# Altium footprint library Atmel Microcontroller 8-Bit megaAVR.PcbLib: 68 footprints (part 5 of 5)
Each footprint in its own frame and in the unit in brackets; x right, y up, seen from the top. Pads: shape width x height; smd on the part's side, far side on the other; paste and mask are expansions set on the pad; w line width, h text height; cw(c..) or ccw(c..) is an arc to the next point about the centre after c.
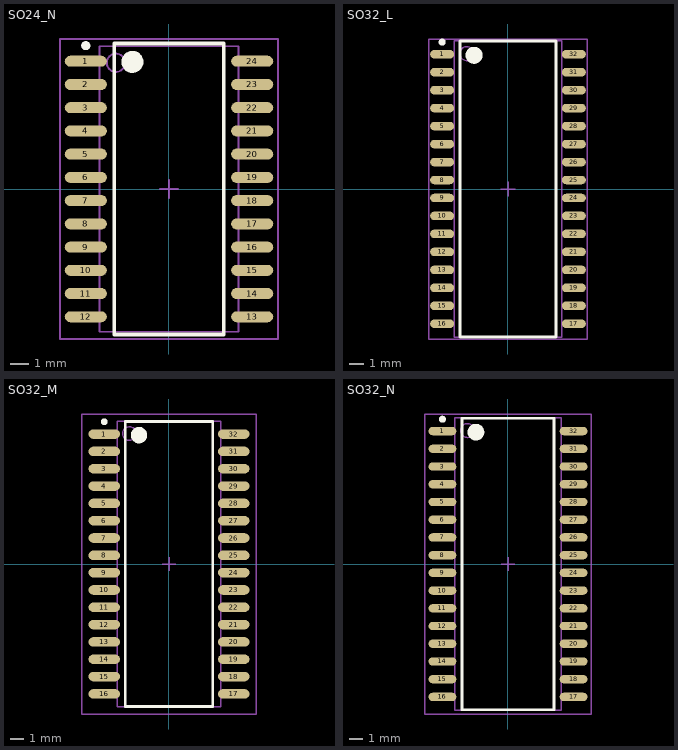
[diagram p4: the footprints below, top view; thin cyan lines are the x and y axes]

## SO24_N [mm] "SOIC, 24-Leads, Body 15.4x7.5mm, Pitch 1.27mm, IPC Medium Density"
height 2.65
pads (24):
  oval 2.3x0.6 smd: 1(-4.55,6.985) 2(-4.55,5.715) 3(-4.55,4.445) 4(-4.55,3.175) 5(-4.55,1.905) 6(-4.55,0.635) 7(-4.55,-0.635) 8(-4.55,-1.905) 9(-4.55,-3.175) 10(-4.55,-4.445) 11(-4.55,-5.715) 12(-4.55,-6.985) 13(4.55,-6.985) 14(4.55,-5.715) 15(4.55,-4.445) 16(4.55,-3.175) 17(4.55,-1.905) 18(4.55,-0.635) 19(4.55,0.635) 20(4.55,1.905) 21(4.55,3.175) 22(4.55,4.445) 23(4.55,5.715) 24(4.55,6.985)
Top Overlay:
  circle w0.25: c-4.55,7.835 r0.125
  circle w0.6: c-2,6.95 r0.3
  lines w0.2: -3,-7.95 -3,7.95 3,7.95 3,-7.95 -3,-7.95
Mechanical 13:
  circle w0.1: c-2.9,6.9 r0.5
  lines w0.1: -3.8,-7.8 -3.8,7.8 3.8,7.8 3.8,-7.8 -3.8,-7.8
Mechanical 15:
  lines w0.1: -0.5,0 0.5,0 ; 0,-0.5 0,0.5 ; -5.95,-8.2 -5.95,8.2 5.95,8.2 5.95,-8.2 -5.95,-8.2
3D body: height 2.65, standoff 0, extent -3.8,-7.8 3.8,7.8

## SO32_L [mm] "SOIC, 32-Leads, Body 20.8x7.5mm, Pitch 1.27mm, IPC High Density"
height 2.54
pads (32):
  oval 1.7x0.6 smd: 1(-4.65,9.525) 2(-4.65,8.255) 3(-4.65,6.985) 4(-4.65,5.715) 5(-4.65,4.445) 6(-4.65,3.175) 7(-4.65,1.905) 8(-4.65,0.635) 9(-4.65,-0.635) 10(-4.65,-1.905) 11(-4.65,-3.175) 12(-4.65,-4.445) 13(-4.65,-5.715) 14(-4.65,-6.985) 15(-4.65,-8.255) 16(-4.65,-9.525) 17(4.65,-9.525) 18(4.65,-8.255) 19(4.65,-6.985) 20(4.65,-5.715) 21(4.65,-4.445) 22(4.65,-3.175) 23(4.65,-1.905) 24(4.65,-0.635) 25(4.65,0.635) 26(4.65,1.905) 27(4.65,3.175) 28(4.65,4.445) 29(4.65,5.715) 30(4.65,6.985) 31(4.65,8.255) 32(4.65,9.525)
Top Overlay:
  circle w0.25: c-4.65,10.375 r0.125
  circle w0.6: c-2.4,9.45 r0.3
  lines w0.2: -3.4,-10.45 -3.4,10.45 3.4,10.45 3.4,-10.45 -3.4,-10.45
Mechanical 13:
  circle w0.1: c-2.9,9.565 r0.5
  lines w0.1: -3.8,-10.465 -3.8,10.465 3.8,10.465 3.8,-10.465 -3.8,-10.465
Mechanical 15:
  lines w0.1: -0.5,0 0.5,0 ; 0,-0.5 0,0.5 ; -5.6,-10.6 -5.6,10.6 5.6,10.6 5.6,-10.6 -5.6,-10.6
3D body: height 2.54, standoff 0, extent -3.8,-10.465 3.8,10.465

## SO32_M [mm] "SOIC, 32-Leads, Body 20.8x7.5mm, Pitch 1.27mm, IPC Low Density"
height 2.54
pads (32):
  oval 2.3x0.7 smd: 1(-4.75,9.525) 2(-4.75,8.255) 3(-4.75,6.985) 4(-4.75,5.715) 5(-4.75,4.445) 6(-4.75,3.175) 7(-4.75,1.905) 8(-4.75,0.635) 9(-4.75,-0.635) 10(-4.75,-1.905) 11(-4.75,-3.175) 12(-4.75,-4.445) 13(-4.75,-5.715) 14(-4.75,-6.985) 15(-4.75,-8.255) 16(-4.75,-9.525) 17(4.75,-9.525) 18(4.75,-8.255) 19(4.75,-6.985) 20(4.75,-5.715) 21(4.75,-4.445) 22(4.75,-3.175) 23(4.75,-1.905) 24(4.75,-0.635) 25(4.75,0.635) 26(4.75,1.905) 27(4.75,3.175) 28(4.75,4.445) 29(4.75,5.715) 30(4.75,6.985) 31(4.75,8.255) 32(4.75,9.525)
Top Overlay:
  circle w0.6: c-2.2,9.45 r0.3
  circle w0.25: c-4.75,10.425 r0.125
  lines w0.2: -3.2,-10.45 3.2,-10.45 3.2,10.45 -3.2,10.45 -3.2,-10.45
Mechanical 13:
  circle w0.1: c-2.9,9.565 r0.5
  lines w0.1: -3.8,-10.465 3.8,-10.465 3.8,10.465 -3.8,10.465 -3.8,-10.465
Mechanical 15:
  lines w0.1: -0.5,0 0.5,0 ; 0,-0.5 0,0.5 ; -6.4,-11 6.4,-11 6.4,11 -6.4,11 -6.4,-11
3D body: height 2.54, standoff 0, extent -3.8,-10.465 3.8,10.465

## SO32_N [mm] "SOIC, 32-Leads, Body 20.8x7.5mm, Pitch 1.27mm, IPC Medium Density"
height 2.54
pads (32):
  oval 2x0.6 smd: 1(-4.7,9.525) 2(-4.7,8.255) 3(-4.7,6.985) 4(-4.7,5.715) 5(-4.7,4.445) 6(-4.7,3.175) 7(-4.7,1.905) 8(-4.7,0.635) 9(-4.7,-0.635) 10(-4.7,-1.905) 11(-4.7,-3.175) 12(-4.7,-4.445) 13(-4.7,-5.715) 14(-4.7,-6.985) 15(-4.7,-8.255) 16(-4.7,-9.525) 17(4.7,-9.525) 18(4.7,-8.255) 19(4.7,-6.985) 20(4.7,-5.715) 21(4.7,-4.445) 22(4.7,-3.175) 23(4.7,-1.905) 24(4.7,-0.635) 25(4.7,0.635) 26(4.7,1.905) 27(4.7,3.175) 28(4.7,4.445) 29(4.7,5.715) 30(4.7,6.985) 31(4.7,8.255) 32(4.7,9.525)
Top Overlay:
  circle w0.25: c-4.7,10.375 r0.125
  circle w0.6: c-2.3,9.45 r0.3
  lines w0.2: -3.3,-10.45 -3.3,10.45 3.3,10.45 3.3,-10.45 -3.3,-10.45
Mechanical 13:
  circle w0.1: c-2.9,9.565 r0.5
  lines w0.1: -3.8,-10.465 -3.8,10.465 3.8,10.465 3.8,-10.465 -3.8,-10.465
Mechanical 15:
  lines w0.1: -0.5,0 0.5,0 ; 0,-0.5 0,0.5 ; -5.95,-10.75 -5.95,10.75 5.95,10.75 5.95,-10.75 -5.95,-10.75
3D body: height 2.54, standoff 0, extent -3.8,-10.465 3.8,10.465